# Altium footprint library Pcb_Lib.PcbLib: 27 footprints (part 2 of 2)
Each footprint in its own frame and in the unit in brackets; x right, y up, seen from the top. Pads: shape width x height; smd on the part's side, far side on the other; paste and mask are expansions set on the pad; w line width, h text height; cw(c..) or ccw(c..) is an arc to the next point about the centre after c.
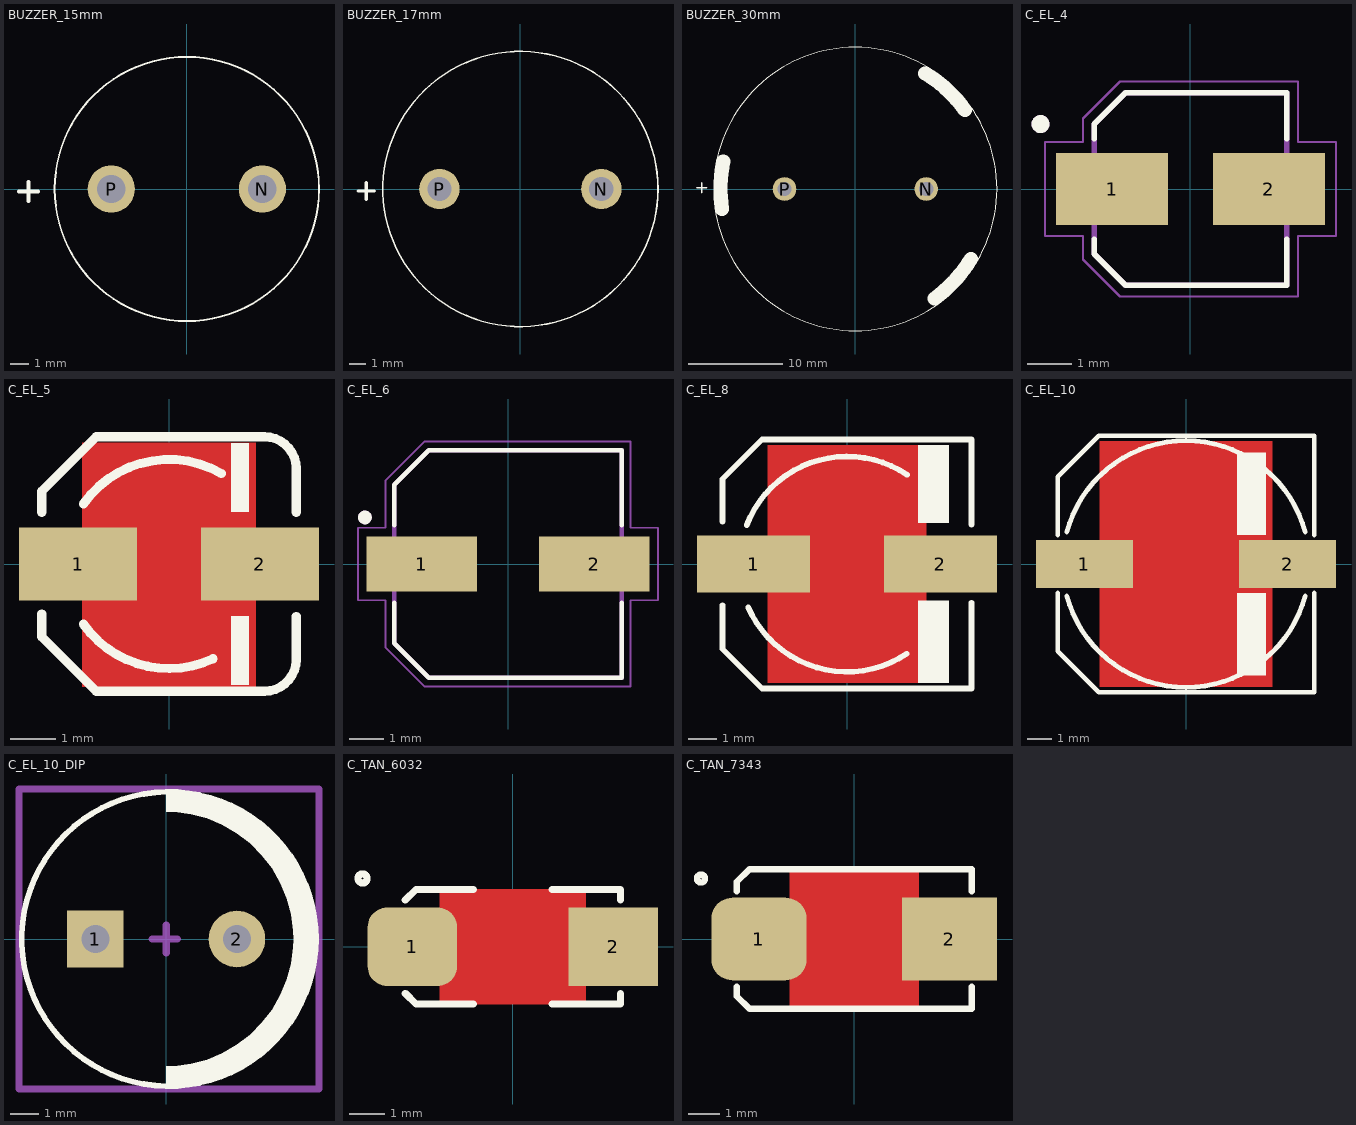
[diagram p1: the footprints below, top view; thin cyan lines are the x and y axes]

## BUZZER_15mm [mm]
pads (2):
  round 2.5 hole 1.5 paste+3: N(4,0) P(-4,0)
Top Overlay:
  circle w0.1: c0,0 r7
  lines w0.2: -8.89,-0.127 -7.874,-0.127 ; -8.382,-0.635 -8.382,0.381

## BUZZER_17mm [mm]
pads (2):
  round 2.5 hole 1.5 paste+3: N(5,0) P(-5,0)
Top Overlay:
  circle w0.1: c0,0 r8.5
  lines w0.2: -10.033,-0.127 -9.017,-0.127 ; -9.525,-0.635 -9.525,0.381

## BUZZER_30mm [mm]
pads (2):
  round 2.5 hole 1.5 paste+3: N(7.5,0) P(-7.5,0)
Top Overlay:
  circle w0.1: c-0.007,0 r15
  lines w0.2: -16.764,0.127 -15.748,0.127 ; -16.256,-0.381 -16.256,0.635
  lines w1.5: -14.12,-2.115 cw(c0.12,0) -13.977,2.921 ; 7.388,12.24 cw(c-0.007,0) 11.589,8.368 ; 8.361,-11.596 ccw(c-0.007,0) 12.233,-7.395

## C_EL_4 [mm]
pads (2):
  rect 2.5x1.6 smd: 1(-1.75,0) 2(1.75,0)
Top Overlay:
  circle w0.2: c-3.35,1.45 r0.1
  lines w0.127: -2.15,-1.12 -2.15,-1.45 -1.45,-2.15 2.15,-2.15 2.15,-1.12 ; -2.15,1.12 -2.15,1.45 -1.45,2.15 2.15,2.15 2.15,1.12
Mechanical 13:
  circle w0.2: c-3.35,1.45 r0.1
  lines w0.127: -2.15,-1.45 -2.15,1.45 -1.45,2.15 2.15,2.15 2.15,-2.15 -1.45,-2.15 -2.15,-1.45
Mechanical 15:
  lines w0.05: -3.25,-1.05 -2.4,-1.05 -2.4,-1.575 -1.575,-2.4 2.4,-2.4 2.4,-1.05 3.25,-1.05 3.25,1.05 2.4,1.05 2.4,2.4 -1.575,2.4 -2.4,1.575 -2.4,1.05 -3.25,1.05 -3.25,-1.05
3D body "step_temp.STEP": height 5.81, standoff 0.01, extent -2.5,-2.15 2.5,2.15

## C_EL_5 [mm] "Electrolytic Cap, D: 5.0mm, L: 5.8mm, Size C"
pads (2):
  rect 2.6x1.6 smd: 1(-2,0) 2(2,0)
Top Layer:
  pour cut-out: 1.905,2.667 1.905,-2.7 -1.905,-2.7 -1.905,2.667
Top Overlay:
  rectangle: 1.36,-2.667 1.76,-1.143
  rectangle: 1.36,1.143 1.76,2.667
  lines w0.2: -2.8,-1.101 -2.8,-1.6 -1.6,-2.8 2.1,-2.8 ccw(c2.1,-2.1) 2.8,-2.1 2.8,-1.155 ; -2.8,1.139 -2.8,1.6 -1.6,2.8 2.1,2.8 cw(c2.1,2.1) 2.8,2.1 2.8,1.139 ; -1.884,-1.319 ccw(c0,0) 0.972,-2.085 ; -1.884,1.319 cw(c0,0) 1.15,1.992
3D body "5x5.8x1.4.stp": height -0.4, standoff -6.2, extent -3,-2.65 3,2.65

## C_EL_6 [mm]
pads (2):
  rect 3.2x1.6 smd: 1(-2.5,0) 2(2.5,0)
Top Overlay:
  circle w0.2: c-4.15,1.35 r0.1
  lines w0.127: -3.3,-1.12 -3.3,-2.3 -2.3,-3.3 3.3,-3.3 3.3,-1.12 ; -3.3,1.12 -3.3,2.3 -2.3,3.3 3.3,3.3 3.3,1.12
Mechanical 13:
  circle w0.2: c-4.15,1.35 r0.1
  lines w0.127: -3.3,-2.3 -2.3,-3.3 3.3,-3.3 3.3,3.3 -2.3,3.3 -3.3,2.3 -3.3,-2.3
Mechanical 15:
  lines w0.05: -4.35,-1.05 -4.35,1.05 -3.55,1.05 -3.55,2.425 -2.425,3.55 3.55,3.55 3.55,1.05 4.35,1.05 4.35,-1.05 3.55,-1.05 3.55,-3.55 -2.425,-3.55 -3.55,-2.425 -3.55,-1.05 -4.35,-1.05
3D body "step_temp.STEP": height 7.7, standoff 0, extent -3.65,-3.3 3.65,3.3

## C_EL_8 [mm] "Electrolytic Cap, Size E, Size F, 8.3X10"
height 10
pads (2):
  rect 4x2 smd: 1(-3.3,0) 2(3.3,0)
Top Layer:
  pour cut-out: 2.794,4.191 2.794,-4.191 -2.794,-4.191 -2.794,4.191
Top Overlay:
  rectangle: 2.5,-4.2 3.6,-1.29
  rectangle: 2.5,1.442 3.6,4.2
  lines w0.2: -4.4,-1.452 -4.4,-3 -3,-4.4 4.4,-4.4 4.4,-1.371 ; -4.4,1.501 -4.4,3 -3,4.4 4.4,4.4 4.4,1.398 ; -3.546,1.367 cw(c0,0) 2.128,3.148 ; -3.493,-1.522 ccw(c0,0) 2.114,-3.17
3D body "Cap_0810.STEP": height 10.3, standoff -0.2, extent -4.902,-4.25 4.798,4.25

## C_EL_10 [mm] "Electrolytic Cap, 10.3mm, L: 10mm"
height 10
pads (2):
  rect 4x2 smd: 1(-4.2,0) 2(4.2,0)
Top Layer:
  pour cut-out: -3.556,5.08 -3.556,-5.08 3.556,-5.08 3.556,5.08
Top Overlay:
  rectangle: 2.1,-4.6 3.3,-1.2
  rectangle: 2.1,1.2 3.3,4.6
  lines w0.2: -5.3,-1.2 -5.3,-3.6 -3.6,-5.3 5.3,-5.3 5.3,-1.2 ; -5.3,1.2 -5.3,3.6 -3.6,5.3 5.3,5.3 5.3,1.2 ; -4.926,-1.32 ccw(c0,0) 4.926,-1.32 ; -4.926,1.32 cw(c0,0) 4.926,1.32
3D body "User Library-cap_10x10x10-1.STEP": height 10.5, standoff 0, extent -5.901,-5.25 5.899,5.25

## C_EL_10_DIP [mm] "Cap electrolitic radial 10x16-5-Design:Abbas Basereh"
height 16
pads (2):
  rect 2x2 hole 1: 1(-2.5,0)
  round 2 hole 1: 2(2.5,0)
Top Overlay:
  circle w0.2: c0.096,0 r5.2
  region: 0,5.2 0.096,5.2 0.437,5.2 1.113,5.111 1.771,4.935 2.401,4.674 2.991,4.333 3.532,3.918 4.014,3.436 4.429,2.895 4.77,2.305 5.031,1.675 5.207,1.017 5.296,0.341 5.296,0 5.296,-0.341 5.207,-1.017 5.031,-1.675 4.77,-2.305 4.429,-2.895 4.014,-3.436 3.532,-3.918 2.991,-4.333 2.401,-4.674 1.771,-4.935 1.113,-5.111 0.437,-5.2 0.096,-5.2 0,-5.2 0,-4.5 0.294,-4.49 0.878,-4.414 1.446,-4.261 1.99,-4.036 2.5,-3.742 2.967,-3.383 3.383,-2.967 3.742,-2.5 4.036,-1.99 4.261,-1.446 4.414,-0.878 4.49,-0.294 4.5,0 4.49,0.294 4.414,0.878 4.261,1.446 4.036,1.99 3.742,2.5 3.383,2.967 2.967,3.383 2.5,3.742 1.99,4.036 1.446,4.261 0.878,4.414 0.294,4.49 0,4.5
Mechanical 15:
  lines w0.254: -0.5,0 0.4,0 ; 0,-0.5 0,0.5 ; -5.2,-5.3 5.4,-5.3 5.4,5.3 -5.2,5.3 -5.2,-5.3
3D body "User Library-Cap-EL(10x16-5).STEP": height 16, standoff -3.3, extent -5,-4.997 5.002,4.998

## C_TAN_6032 [mm] "CAPACITOR, TAN C, TAN F, TAN U, TAN L, 6032P, 6.0X3.2mm"
height 2.8
pads (2):
  rrect50% 2.5x2.2 smd: 1(-2.8,0)
  rect 2.5x2.2 smd: 2(2.8,0)
Top Layer:
  pour cut-out: -2.032,1.6 2.032,1.6 2.032,-1.6 -2.032,-1.6
Top Overlay:
  circle w0.2: c-4.191,1.905 r0.127
  lines w0.2: -3,-1.3 -2.7,-1.6 -1.1,-1.6 ; -3,1.3 -2.7,1.6 -1.1,1.6 ; 1.1,-1.6 3,-1.6 3,-1.3 ; 1.1,1.6 3,1.6 3,1.3
3D body "User Library-CAP_TANT_6032-28_y.step": height 2.8, standoff 0, extent -3.15,-1.75 3.15,1.75

## C_TAN_7343 [mm] "CAPACITOR, TAN D, TAN E, TAN Y, TAN X, 7343P, 7.3X4.3mm"
height 4.3
pads (2):
  rrect50% 3x2.6 smd: 1(-3,0)
  rect 3x2.6 smd: 2(3,0)
Top Layer:
  pour cut-out: -2.032,2.2 -2.032,-2.2 2.032,-2.2 2.032,2.2
Top Overlay:
  circle w0.2: c-4.826,1.905 r0.127
  lines w0.2: -3.7,-1.5 -3.7,-1.8 -3.3,-2.2 3.7,-2.2 3.7,-1.5 ; -3.7,1.5 -3.7,1.8 -3.3,2.2 3.7,2.2 3.7,1.5
3D body "User Library-AVX_E_CASE.step": height 4.2, standoff 0, extent -3.7,-2.225 3.701,2.225